# EAGLE library part GY-521 (library 111_BAROMETR)
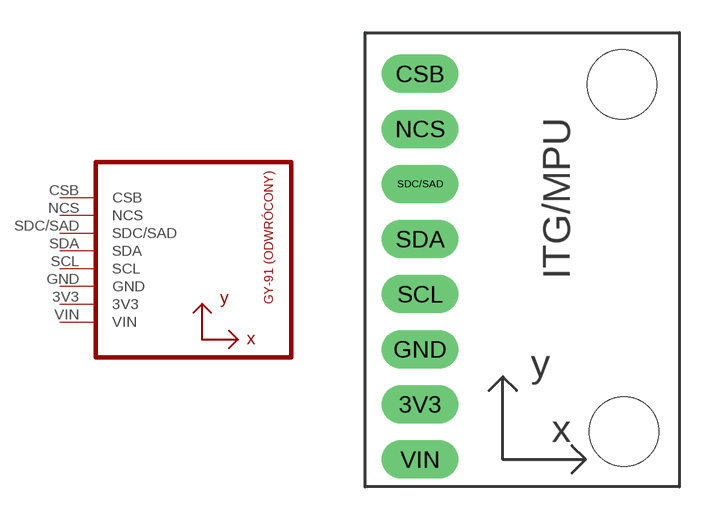
[diagram p0: symbol with the pads of GY-521; footprint GY-521]

Designator prefix U

## GY-521MPU6050  [GY-521]
3V3  3V3
CSB  CSB
GND  GND
NCS  NCS
SCL  SCL
SDA  SDA
SDC/SAD  SDC/SAD
VIN  VIN

## Footprint GY-521 (pad centres in mm)
drill 0.8 pad 1.778 long: 3V3 -8.89,-6.35; CSB -8.89,8.89; GND -8.89,-3.81; NCS -8.89,6.35; SCL -8.89,-1.27; SDA -8.89,1.27; SDC/SAD -8.89,3.81; VIN -8.89,-8.89
hole 3.2 at 0.4,8.4
hole 3.2 at 0.5,-7.6